# EAGLE library part AT28BV256 (library eeprom)
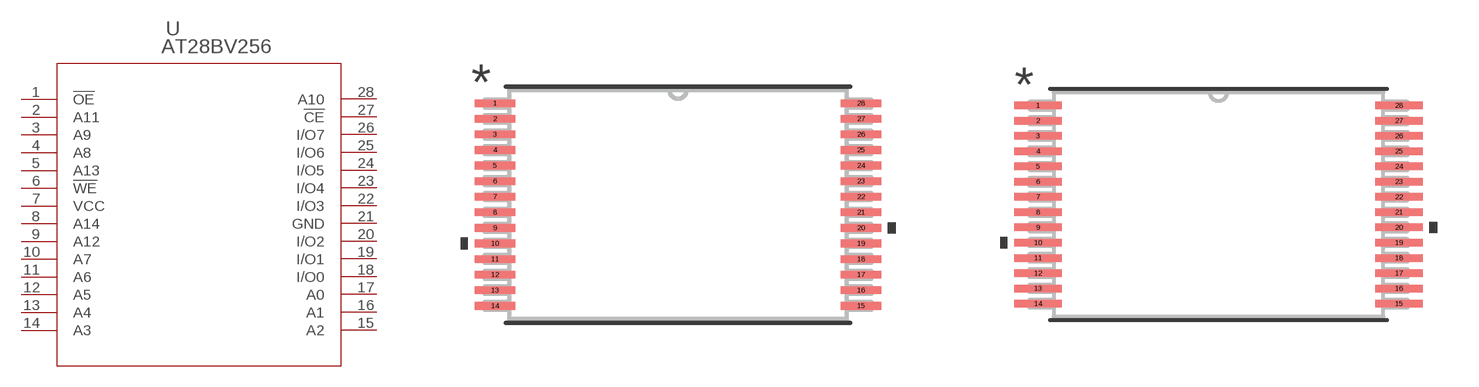
[diagram p0: symbol with the pads of 28T_ATM; footprints 28T_ATM, 28T_ATM-M]

Designator prefix U

## AT28BV256 (BUILT_BY: EMA_UL_Team; MANUFACTURER_PART_NUMBER: AT28BV256-20TU; SOURCELIBRARY: Atmel_2015-02-13; VENDOR: Atmel)  [28T_ATM]
1  !OE  out
2  A11  pas
3  A9  pas
4  A8  pas
5  A13  pas
6  !WE  pas
7  VCC  pwr
8  A14  pas
9  A12  pas
10  A7  pas
11  A6  pas
12  A5  pas
13  A4  pas
14  A3  pas
15  A2  pas
16  A1  pas
17  A0  pas
18  I/O0
19  I/O1
20  I/O2
21  GND  pwr
22  I/O3
23  I/O4
24  I/O5
25  I/O6
26  I/O7
27  !CE  pas
28  A10  pas

## AT28BV25628T_ATM-M (BUILT_BY: EMA_UL_Team; MANUFACTURER_PART_NUMBER: AT28BV256-20TU; SOURCELIBRARY: Atmel_2015-02-13; VENDOR: Atmel)  [28T_ATM-M]
Pads as for 28T_ATM

## AT28BV25628T_ATM-L (BUILT_BY: EMA_UL_Team; MANUFACTURER_PART_NUMBER: AT28BV256-20TU; SOURCELIBRARY: Atmel_2015-02-13; VENDOR: Atmel)  [28T_ATM-L]
Pads as for 28T_ATM

## Footprint 28T_ATM (pad centres in mm)
smd 1.411 x 0.27: 1 -6.45,3.575; 2 -6.45,3.025; 3 -6.45,2.475; 4 -6.45,1.925; 5 -6.45,1.375; 6 -6.45,0.825; 7 -6.45,0.275; 8 -6.45,-0.275; 9 -6.45,-0.825; 10 -6.45,-1.375; 11 -6.45,-1.925; 12 -6.45,-2.475; 13 -6.45,-3.025; 14 -6.45,-3.575; 15 6.45,-3.575; 16 6.45,-3.025; 17 6.45,-2.475; 18 6.45,-1.925; 19 6.45,-1.375; 20 6.45,-0.825; 21 6.45,-0.275; 22 6.45,0.275; 23 6.45,0.825; 24 6.45,1.375; 25 6.45,1.925; 26 6.45,2.475; 27 6.45,3.025; 28 6.45,3.575

## Footprint 28T_ATM-M (pad centres in mm)
smd 1.716 x 0.27: 1 -6.501,3.575; 2 -6.501,3.025; 3 -6.501,2.475; 4 -6.501,1.925; 5 -6.501,1.375; 6 -6.501,0.825; 7 -6.501,0.275; 8 -6.501,-0.275; 9 -6.501,-0.825; 10 -6.501,-1.375; 11 -6.501,-1.925; 12 -6.501,-2.475; 13 -6.501,-3.025; 14 -6.501,-3.575; 15 6.501,-3.575; 16 6.501,-3.025; 17 6.501,-2.475; 18 6.501,-1.925; 19 6.501,-1.375; 20 6.501,-0.825; 21 6.501,-0.275; 22 6.501,0.275; 23 6.501,0.825; 24 6.501,1.375; 25 6.501,1.925; 26 6.501,2.475; 27 6.501,3.025; 28 6.501,3.575

## Footprint 28T_ATM-L (pad centres in mm)
smd 1.106 x 0.219: 1 -6.399,3.575; 2 -6.399,3.025; 3 -6.399,2.475; 4 -6.399,1.925; 5 -6.399,1.375; 6 -6.399,0.825; 7 -6.399,0.275; 8 -6.399,-0.275; 9 -6.399,-0.825; 10 -6.399,-1.375; 11 -6.399,-1.925; 12 -6.399,-2.475; 13 -6.399,-3.025; 14 -6.399,-3.575; 15 6.399,-3.575; 16 6.399,-3.025; 17 6.399,-2.475; 18 6.399,-1.925; 19 6.399,-1.375; 20 6.399,-0.825; 21 6.399,-0.275; 22 6.399,0.275; 23 6.399,0.825; 24 6.399,1.375; 25 6.399,1.925; 26 6.399,2.475; 27 6.399,3.025; 28 6.399,3.575